# EAGLE library part LSM9DS1 (library LSM9DS1)
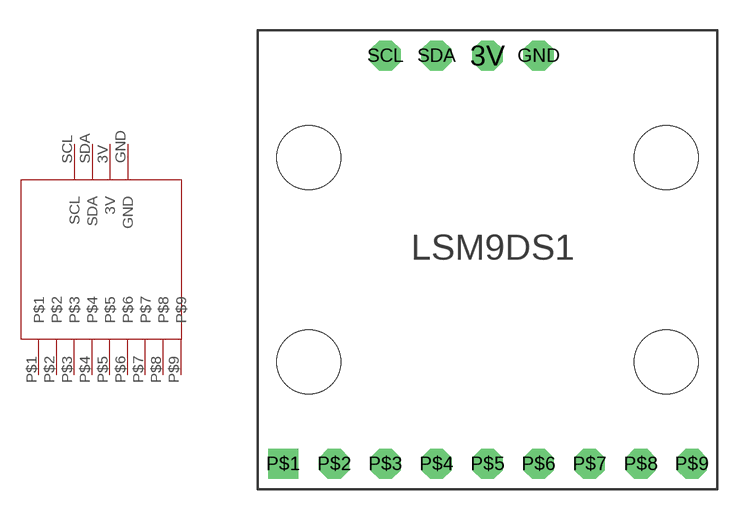
[diagram p0: symbol with the pads of LSM9DS1; footprint LSM9DS1]

Designator prefix -

## LSM9DS1  [LSM9DS1]
3V  3V
GND  GND
P$1  P$1
P$2  P$2
P$3  P$3
P$4  P$4
P$5  P$5
P$6  P$6
P$7  P$7
P$8  P$8
P$9  P$9
SCL  SCL
SDA  SDA

## Footprint LSM9DS1 (pad centres in mm)
drill 1 octagon: 3V 11.43,21.59; GND 13.97,21.59; P$2 3.81,1.27; P$3 6.35,1.27; P$4 8.89,1.27; P$5 11.43,1.27; P$6 13.97,1.27; P$7 16.51,1.27; P$8 19.05,1.27; P$9 21.59,1.27; SCL 6.35,21.59; SDA 8.89,21.59
drill 1 square: P$1 1.27,1.27
hole 3.175 at 2.54,6.35
hole 3.175 at 2.54,16.51
hole 3.175 at 20.32,16.51
hole 3.175 at 20.32,6.35